# Altium footprint library WE-PD2 HV.PcbLib: 3 footprints
Each footprint in its own frame and in the unit in brackets; x right, y up, seen from the top. Pads: shape width x height; smd on the part's side, far side on the other; paste and mask are expansions set on the pad; w line width, h text height; cw(c..) or ccw(c..) is an arc to the next point about the centre after c.
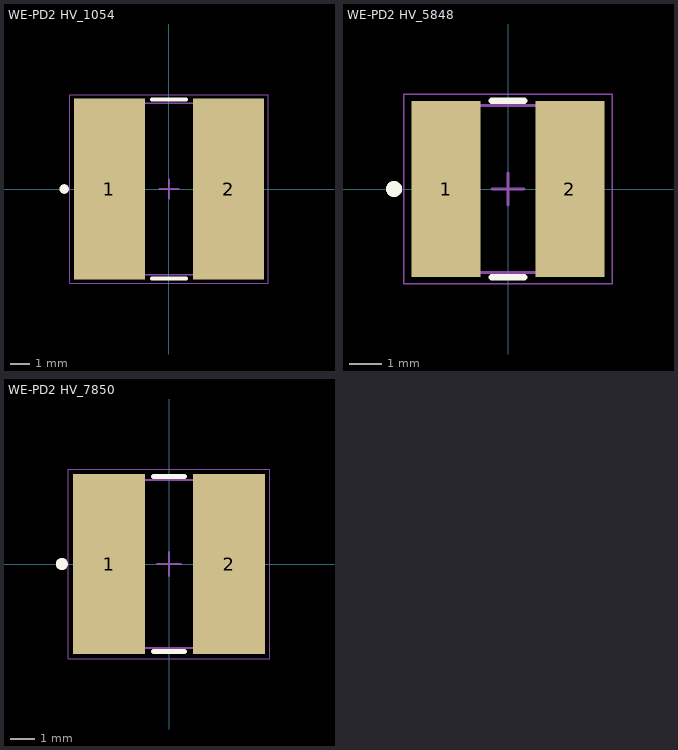
[diagram p0: the footprints below, top view; thin cyan lines are the x and y axes]

## WE-PD2 HV_1054 [mm] "SMT High Voltage Power Inductor, 2-Leads, body 10.00x9.00mm"
height 5.9
pads (2):
  rect 3.75x9.5 smd: 1(-3.125,0) 2(3.125,0)
Top Overlay:
  circle w0.25: c-5.5,0 r0.125
  lines w0.2: -0.9,-4.7 0.9,-4.7 ; -0.9,4.7 0.9,4.7
Top Assembly:
  circle w0.1: c-4.2,0 r0.35
  lines w0.1: -2.15,-4.5 cw(c0.1,0) -2.15,4.5 2.15,4.5 cw(c-0.1,0) 2.15,-4.5 -2.15,-4.5
Top Designator:
  text ".Designator" at -3.647,-0.357 h1
Top 3D Body:
  circle w0.1: c-4.2,0 r0.35
  lines w0.1: -2.15,-4.5 cw(c0.1,0) -2.15,4.5 2.15,4.5 cw(c-0.1,0) 2.15,-4.5 -2.15,-4.5
Top Courtyard:
  lines w0.05: -5.2,-4.95 5.2,-4.95 5.2,4.95 -5.2,4.95 -5.2,-4.95
Top Component Center:
  lines w0.1: -0.5,0 0.5,0 ; 0,-0.5 0,0.5
3D body "IndPD2HV_1054.stp": height 5.4, standoff 0, extent -4.931,-4.5 4.931,4.502

## WE-PD2 HV_5848 [mm] "SMT High Voltage Power Inductor, 2-Leads, body 5.80x5.20mm"
height 4.5
pads (2):
  rect 2.15x5.5 smd: 1(-1.925,0) 2(1.925,0)
Top Overlay:
  circle w0.25: c-3.55,0 r0.125
  lines w0.2: -0.5,-2.75 0.5,-2.75 ; -0.5,2.75 0.5,2.75
Top Assembly:
  circle w0.1: c-2.2,0 r0.3
  lines w0.1: -1,-2.6 cw(c-0.168,0) -1,2.6 1,2.6 cw(c0.168,0) 1,-2.6 -1,-2.6
Top Designator:
  text ".Designator" at -3.647,-0.357 h1
Top 3D Body:
  circle w0.1: c-2.2,0 r0.3
  lines w0.1: -1,-2.6 cw(c-0.168,0) -1,2.6 1,2.6 cw(c0.168,0) 1,-2.6 -1,-2.6
Top Courtyard:
  lines w0.05: -3.25,-2.95 -3.25,2.95 3.25,2.95 3.25,-2.95 -3.25,-2.95
Top Component Center:
  lines w0.1: -0.5,0 0.5,0 ; 0,-0.5 0,0.5
3D body "WE-PD2 HV_5848.stp": height 4.48, standoff -0.02, extent -2.898,-2.6 2.889,2.6

## WE-PD2 HV_7850 [mm] "SMT High Voltage Power Inductor, 2-Leads, body 7.80x7.00mm"
height 5.4
pads (2):
  rect 3x7.5 smd: 1(-2.5,0) 2(2.5,0)
Top Overlay:
  circle w0.25: c-4.466,0 r0.125
  lines w0.2: -0.65,-3.65 0.65,-3.65 ; -0.65,3.65 0.65,3.65
Top Assembly:
  circle w0.1: c-3.2,0 r0.3
  lines w0.1: -1.744,-3.488 cw(c0,0) -1.719,3.501 1.719,3.5 ; -1.719,-3.5 1.719,-3.5 ; 1.719,3.501 cw(c0,0) 1.744,-3.488
Top Designator:
  text ".Designator" at -3.647,-0.357 h1
Top 3D Body:
  circle w0.1: c-3.2,0 r0.3
  lines w0.1: -1.744,-3.488 cw(c0,0) -1.719,3.501 1.719,3.5 ; -1.719,-3.5 1.719,-3.5 ; 1.719,3.501 cw(c0,0) 1.744,-3.488
Top Courtyard:
  lines w0.05: -4.2,-3.95 -4.2,3.95 4.2,3.95 4.2,-3.95 -4.2,-3.95
Top Component Center:
  lines w0.1: -0.5,0 0.5,0 ; 0,-0.5 0,0.5
3D body "IndPD2HV_7850.stp": height 4.9, standoff 0, extent -3.813,-3.5 3.813,3.5